# Altium schematic symbol library MCU_NXP_NTAG.SchLib: 1 symbol
Pins are listed as number, name and electrical type; pins without a type are passive.

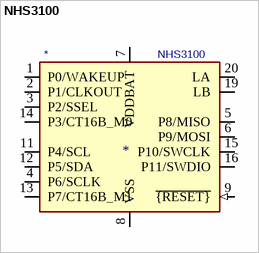
[diagram p0: symbol NHS3100]

## NHS3100
designator *  value NHS3100
ki_keywords: NFC Cortex-M0; ki_description: Temperature logger, VQFN-24; ki_fp_filters: HVQFN*1EP*4x4mm*P0.5mm*; Footprint: Package_DFN_QFN:HVQFN-24-1EP_4x4mm_P0.5mm_EP2.6x2.6mm; Supplier: https://www.nxp.com/docs/en/data-sheet/NHS3100.pdf
footprint HVQFN-24-1EP_4x4mm_P0.5mm_EP2.6x2.6mm
pins: 1 P0/WAKEUP (io), 2 P1/CLKOUT (io), 3 P2/SSEL (io), 4 P6/SCLK (io), 5 P8/MISO (io), 6 P9/MOSI (io), 7 VDDBAT (power), 8 VSS (power), 9 ~{{RESET}} (in), 10 reserved (in) hidden, 11 P4/SCL (io), 12 P5/SDA (io), 13 P7/CT16B_M1 (io), 14 P3/CT16B_M0 (io), 15 P10/SWCLK (io), 16 P11/SWDIO (io), 17 VSS hidden, 18 VSS hidden, 19 LB, 20 LA, 21 VSS hidden, 22 VSS hidden, 23 VSS hidden, 24 VSS hidden, 25 VSS hidden